# Altium schematic symbol library Arduino_Uno_Custom_SchematicLib.SchLib: 40 symbols (part 4 of 4)
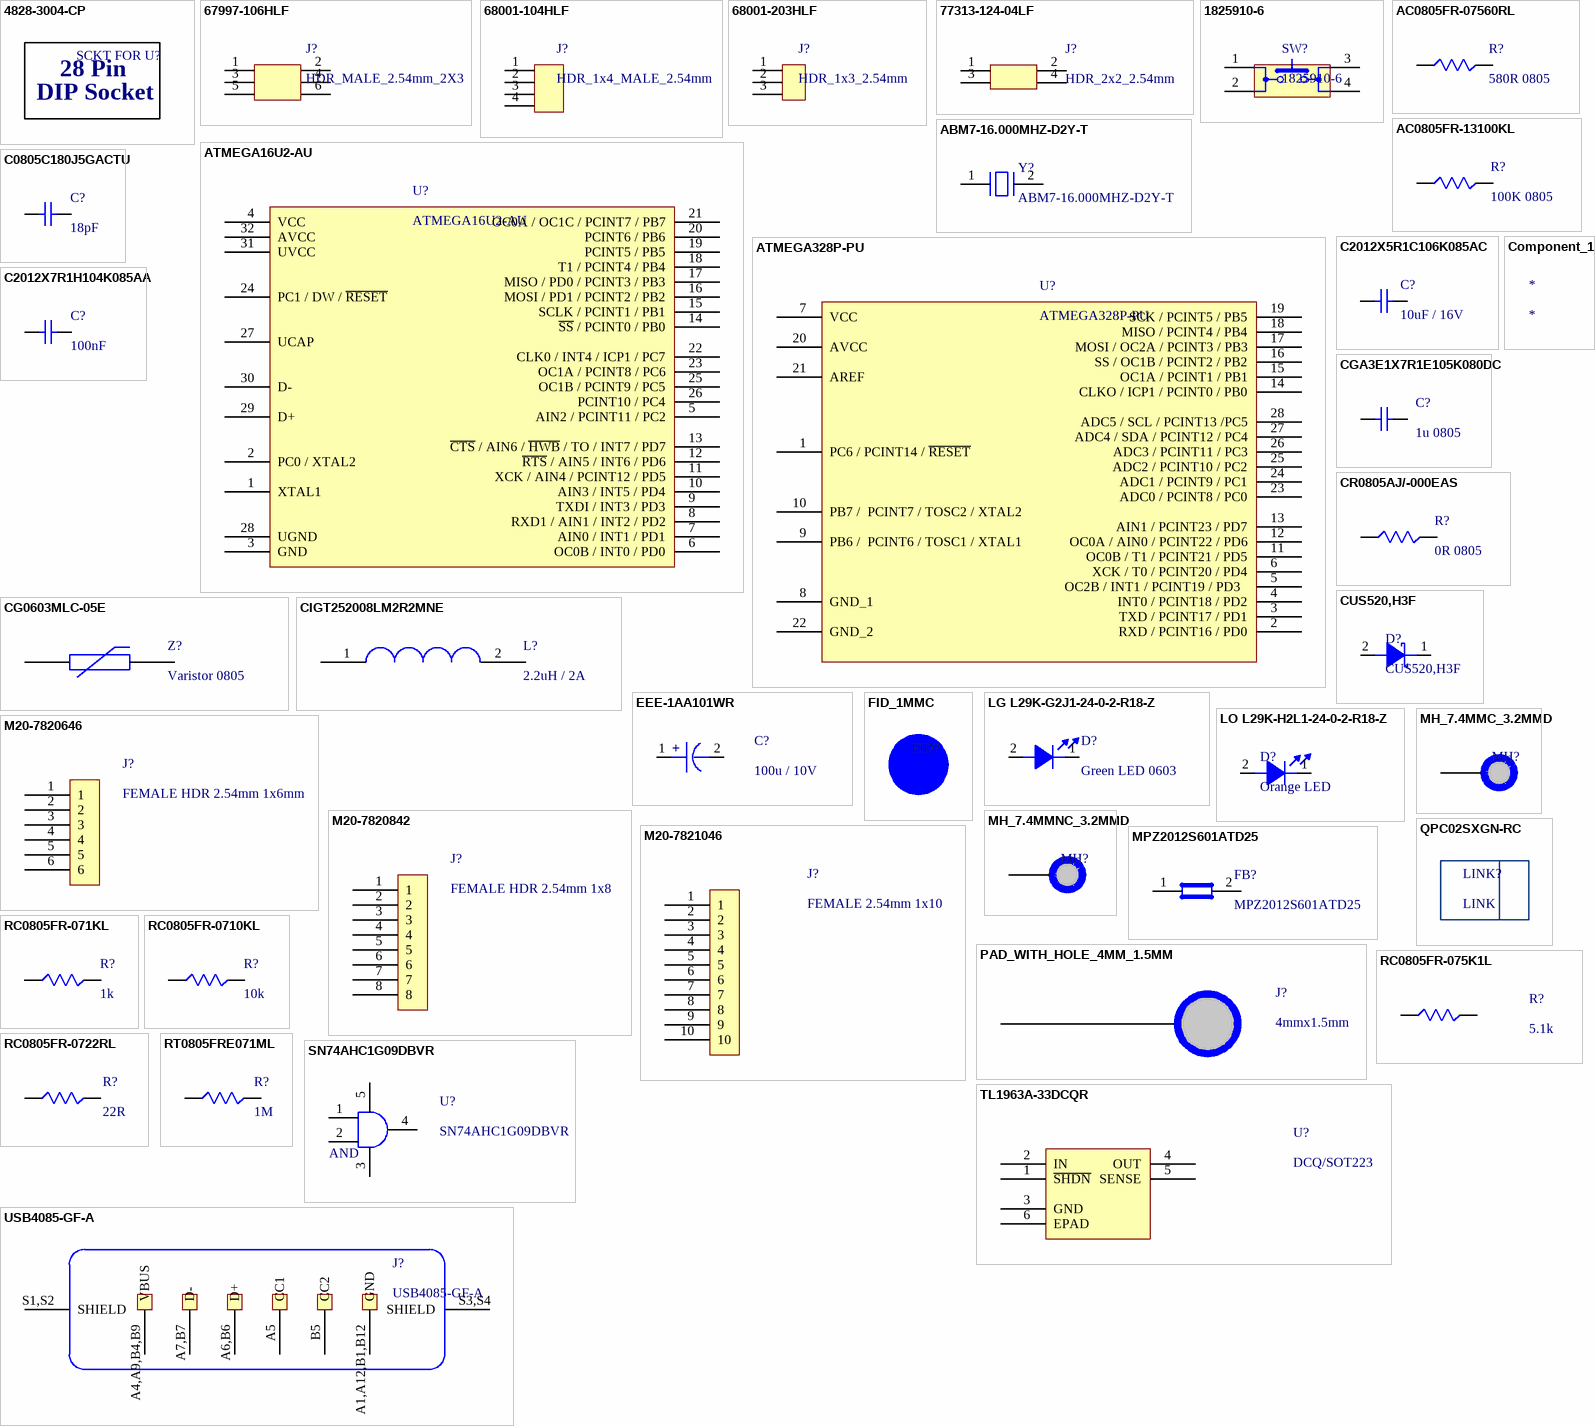
[diagram p3: symbols 4828-3004-CP to USB4085-GF-A]

## USB4085-GF-A
designator J?
USB Connector, 16 Contact(s), Female, Right Angle, Solder Terminal, Locking, Receptacle; Manufacturer: Global Connector Technology; Contact Resistance: 50mΩ; Current Rating: 250mA; Dielectric Material: Liquid Crystal Polymer; Insulation Resistance: 100MΩ; Number of Contacts: 16; Number of Ports: 1; Operating Force: 20N; Row Spacing: 1.35mm; USB Standard: USB 2.0; Voltage Rating: 20V; Supplier: DigiKey; Supplier Part Number: 2073-USB4085-GF-ACT-ND; Manufacturer Part Number: USB4085-GF-A; RoHS: Compliant; Category: USB Connectors; Stock: 112079; Pricing: 1=0.91, 10=0.772, 25=0.7236, 50=0.689, 100=0.6561, 250=0.61492 (USD); China RoHS: Compliant; Contact Material: Gold, Nickel; Country of Origin: Mainland China; Export Control Classification Number (ECCN) Code: EAR99; Gender: Female; Height: 3.66mm; Harmonized Tariff Schedule (HTS) Code: 8536.69.40.30; Insulation Color: Black; Introduction Date: 2018-08-17; Lifecycle Status: Production; Max Operating Temperature: 85°C; Min Operating Temperature: -40°C; Pins: 16; Number of Positions: 16; Number of Rows: 2; Orientation: Right Angle; REACH SVHC: Yes; Shell Finish: Nickel; Shell Material: Stainless Steel; Terminal Pitch: 850µm; Termination: Solder; ComponentLink1URL: https://datasheet.octopart.com:443/USB4085-GF-A-GCT-datasheet-188869075.pdf?src-supplier=TME; ComponentLink1Description: https://datasheet.octopart.com:443/USB4085-GF-A-GCT-datasheet-188869075.pdf?src-supplier=TME; ComponentLink2URL: https://datasheet.octopart.com:443/USB4085-GF-A-GCT-datasheet-166929322.pdf?src-supplier=TME; ComponentLink2Description: https://datasheet.octopart.com:443/USB4085-GF-A-GCT-datasheet-166929322.pdf?src-supplier=TME; ComponentLink3URL: https://datasheet.octopart.com:443/USB4085-GF-A-Global-Connector-Technology-datasheet-155825551.pdf?src-supplier=Future+Electronics; ComponentLink3Description: https://datasheet.octopart.com:443/USB4085-GF-A-Global-Connector-Technology-datasheet-155825551.pdf?src-supplier=Future+Electronics; ComponentLink4URL: https://datasheet.octopart.com:443/USB4085-GF-A-Global-Connector-Technology-datasheet-115130528.pdf?src-supplier=Future+Electronics; ComponentLink4Description: https://datasheet.octopart.com:443/USB4085-GF-A-Global-Connector-Technology-datasheet-115130528.pdf?src-supplier=Future+Electronics
footprint GCT_USB4085-GF-A_REVA4
pins: A1,A12,B1,B12 GND (power), A4,A9,B4,B9 VBUS (power), A5 CC1, A6,B6 D+, A7,B7 D-, B5 CC2, S1,S2 SHIELD, S3,S4 SHIELD